# Altium footprint library SamacSys.PcbLib: 47 footprints (part 1 of 3)
Each footprint in its own frame and in the unit in brackets; x right, y up, seen from the top. Pads: shape width x height; smd on the part's side, far side on the other; paste and mask are expansions set on the pad; w line width, h text height; cw(c..) or ccw(c..) is an arc to the next point about the centre after c.
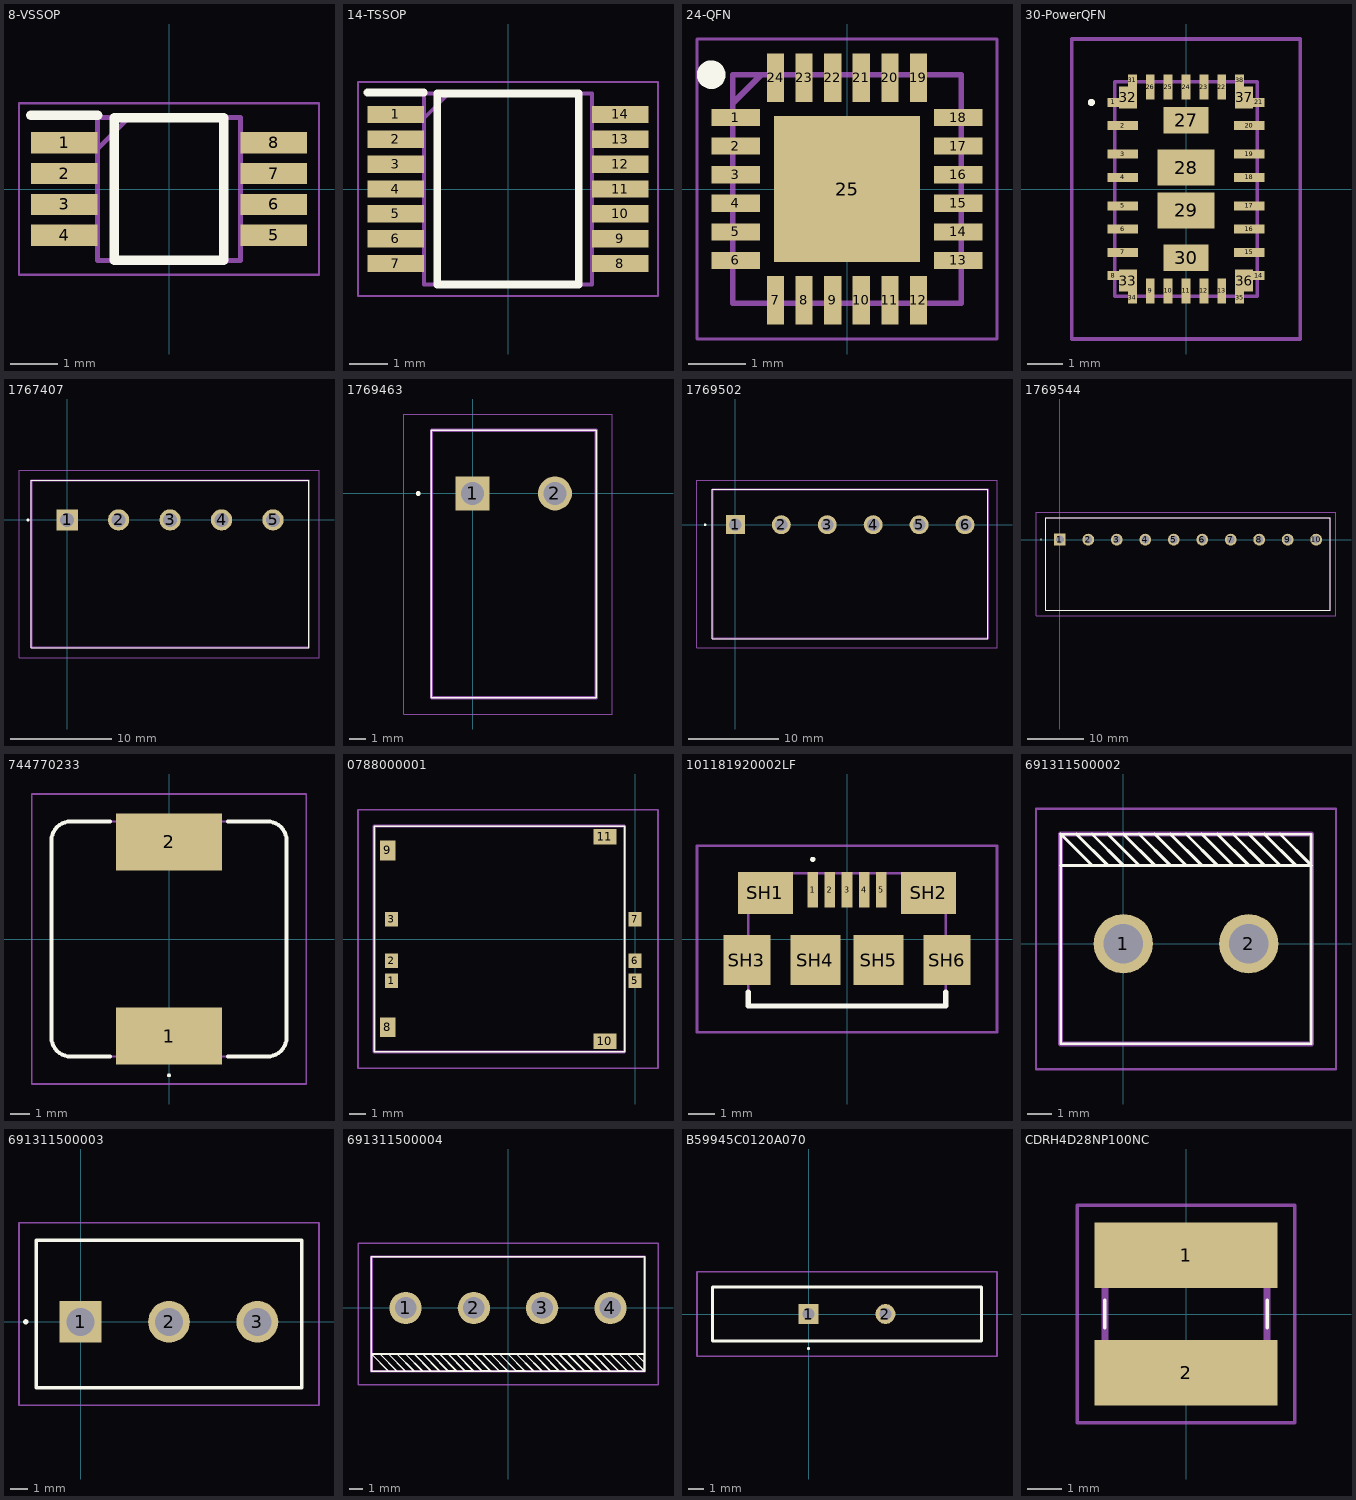
[diagram p0: the footprints below, top view; thin cyan lines are the x and y axes]

## 8-VSSOP [mm]
pads (8):
  rect 1.4x0.45 smd: 1(-2.2,0.975) 2(-2.2,0.325) 3(-2.2,-0.325) 4(-2.2,-0.975) 5(2.2,-0.975) 6(2.2,-0.325) 7(2.2,0.325) 8(2.2,0.975)
Top Overlay:
  lines w0.2: -2.9,1.55 -1.5,1.55 ; -1.15,-1.5 1.15,-1.5 1.15,1.5 -1.15,1.5 -1.15,-1.5
Mechanical 13:
  lines w0.1: -1.5,0.85 -0.85,1.5 ; -1.5,-1.5 1.5,-1.5 1.5,1.5 -1.5,1.5 -1.5,-1.5
Mechanical 15:
  lines w0.05: -3.15,-1.8 3.15,-1.8 3.15,1.8 -3.15,1.8 -3.15,-1.8
3D body "TCA9536DGKR.stp": height 1.1, standoff 0, extent -2.451,-1.499 2.451,1.499

## 14-TSSOP [mm]
pads (14):
  rect 1.475x0.45 smd: 1(-2.938,1.95) 2(-2.938,1.3) 3(-2.938,0.65) 4(-2.938,0) 5(-2.938,-0.65) 6(-2.938,-1.3) 7(-2.938,-1.95) 8(2.938,-1.95) 9(2.938,-1.3) 10(2.938,-0.65) 11(2.938,0) 12(2.938,0.65) 13(2.938,1.3) 14(2.938,1.95)
Top Overlay:
  lines w0.2: -3.675,2.525 -2.2,2.525 ; -1.85,-2.5 -1.85,2.5 1.85,2.5 1.85,-2.5 -1.85,-2.5
Mechanical 13:
  lines w0.1: -2.2,1.85 -1.55,2.5 ; -2.2,-2.5 -2.2,2.5 2.2,2.5 2.2,-2.5 -2.2,-2.5
Mechanical 15:
  lines w0.05: -3.925,-2.8 -3.925,2.8 3.925,2.8 3.925,-2.8 -3.925,-2.8
3D body "TXS0104EPWR.stp": height 1.13, standoff 0, extent -3.2,-2.5 3.2,2.5

## 24-QFN [mm]
pads (25):
  rect 0.85x0.3 smd: 1(-1.95,1.25) 2(-1.95,0.75) 3(-1.95,0.25) 4(-1.95,-0.25) 5(-1.95,-0.75) 6(-1.95,-1.25) 13(1.95,-1.25) 14(1.95,-0.75) 15(1.95,-0.25) 16(1.95,0.25) 17(1.95,0.75) 18(1.95,1.25)
  rect 0.3x0.85 smd: 7(-1.25,-1.95) 8(-0.75,-1.95) 9(-0.25,-1.95) 10(0.25,-1.95) 11(0.75,-1.95) 12(1.25,-1.95) 19(1.25,1.95) 20(0.75,1.95) 21(0.25,1.95) 22(-0.25,1.95) 23(-0.75,1.95) 24(-1.25,1.95)
  rect 2.55x2.55 smd: 25(0,0)
Top Overlay:
  circle w0.25: c-2.375,2 r0.125
Mechanical 13:
  lines w0.1: -2,1.5 -1.5,2 ; -2,-2 2,-2 2,2 -2,2 -2,-2
Mechanical 15:
  lines w0.05: -2.625,-2.625 2.625,-2.625 2.625,2.625 -2.625,2.625 -2.625,-2.625
3D body "NAU8814YG_TR.stp": height 0.9, standoff 0, extent -2.05,-2.05 2.05,2.05

## 30-PowerQFN [mm]
pads (38):
  rect 0.325x0.25 smd: 1(-2.038,2.425) 8(-2.038,-2.425) 14(2.038,-2.425) 21(2.038,2.425)
  rect 0.85x0.25 smd: 2(-1.775,1.775) 3(-1.775,0.975) 4(-1.775,0.325) 5(-1.775,-0.475) 6(-1.775,-1.125) 7(-1.775,-1.775) 15(1.775,-1.775) 16(1.775,-1.125) 17(1.775,-0.475) 18(1.775,0.325) 19(1.775,0.975) 20(1.775,1.775)
  rect 0.25x0.7 smd: 9(-1,-2.85) 10(-0.5,-2.85) 11(0,-2.85) 12(0.5,-2.85) 13(1,-2.85) 22(1,2.85) 23(0.5,2.85) 24(0,2.85) 25(-0.5,2.85) 26(-1,2.85)
  rect 1.25x0.74 smd: 27(0,1.925) 30(0,-1.925)
  rect 1.6x1 smd: 28(0,0.6) 29(0,-0.6)
  rect 0.25x0.325 smd: 31(-1.5,3.038) 34(-1.5,-3.038) 35(1.5,-3.038) 38(1.5,3.038)
  rect 0.5x0.625 smd: 32(-1.625,2.563) 33(-1.625,-2.563) 36(1.625,-2.563) 37(1.625,2.563)
Top Overlay:
  lines w0.1: -2.7,2.425 cw(c-2.65,2.425) -2.6,2.425 cw(c-2.65,2.425) -2.7,2.425
Mechanical 13:
  lines w0.1: -2,-3 2,-3 2,3 -2,3 -2,-3
Mechanical 15:
  lines w0.1: -3.2,-4.2 3.2,-4.2 3.2,4.2 -3.2,4.2 -3.2,-4.2
3D body "TPSM63603V5RDHR.stp": height 2, standoff 0, extent -2,-3 2,3

## 1767407 [mm]
pads (5):
  rect 2.1x2.1 hole 1.4: 1(0,0)
  round 2.1 hole 1.4: 2(5.08,0) 3(10.16,0) 4(15.24,0) 5(20.32,0)
Top Overlay:
  circle w0.2: c-3.85,0 r0.05
  lines w0.1: -3.54,-12.6 -3.54,3.9 23.86,3.9 23.86,-12.6 -3.54,-12.6
Mechanical 13:
  lines w0.2: -3.54,-12.6 -3.54,3.9 23.86,3.9 23.86,-12.6 -3.54,-12.6
Mechanical 15:
  lines w0.05: -4.75,-13.6 -4.75,4.9 24.86,4.9 24.86,-13.6 -4.75,-13.6
3D body "1767407.stp": height 0, standoff -27.4, extent 2.088,-13.037 20.387,3.731

## 1769463 [mm]
pads (2):
  rect 2.1x2.1 hole 1.4: 1(0,0)
  round 2.1 hole 1.4: 2(5.08,0)
Top Overlay:
  circle w0.2: c-3.35,0 r0.05
  lines w0.1: -2.54,-12.6 7.62,-12.6 7.62,3.9 -2.54,3.9 -2.54,-12.6
Mechanical 13:
  lines w0.2: -2.54,-12.6 7.62,-12.6 7.62,3.9 -2.54,3.9 -2.54,-12.6
Mechanical 15:
  lines w0.05: -4.25,-13.6 8.62,-13.6 8.62,4.9 -4.25,4.9 -4.25,-13.6
3D body "1769463.stp": height 0, standoff -10.16, extent -14.018,-3.5 2.75,14.799

## 1769502 [mm]
pads (6):
  rect 2.1x2.1 hole 1.4: 1(0,0)
  round 2.1 hole 1.4: 2(5.08,0) 3(10.16,0) 4(15.24,0) 5(20.32,0) 6(25.4,0)
Top Overlay:
  circle w0.2: c-3.35,0 r0.05
  lines w0.1: -2.54,-12.6 27.94,-12.6 27.94,3.9 -2.54,3.9 -2.54,-12.6
Mechanical 13:
  lines w0.2: -2.54,-12.6 27.94,-12.6 27.94,3.9 -2.54,3.9 -2.54,-12.6
Mechanical 15:
  lines w0.05: -4.25,-13.6 28.94,-13.6 28.94,4.9 -4.25,4.9 -4.25,-13.6
3D body "1769502.stp": height 0, standoff -30.48, extent -14.018,-3.5 2.75,14.799

## 1769544 [mm]
pads (10):
  rect 2.1x2.1 hole 1.4: 1(0,0)
  round 2.1 hole 1.4: 2(5.08,0) 3(10.16,0) 4(15.24,0) 5(20.32,0) 6(25.4,0) 7(30.48,0) 8(35.56,0) 9(40.64,0) 10(45.72,0)
Top Overlay:
  circle w0.2: c-3.35,0 r0.05
  lines w0.1: -2.54,-12.6 -2.54,3.9 48.26,3.9 48.26,-12.6 -2.54,-12.6
Mechanical 13:
  lines w0.2: -2.54,-12.6 -2.54,3.9 48.26,3.9 48.26,-12.6 -2.54,-12.6
Mechanical 15:
  lines w0.05: -4.25,-13.6 -4.25,4.9 49.26,4.9 49.26,-13.6 -4.25,-13.6
3D body "1769544.stp": height 0, standoff -50.8, extent -14.018,-3.5 2.75,14.799

## 744770233 [mm]
pads (2):
  rect 5.4x2.9 smd: 1(0,-4.95) 2(0,4.95)
Top Overlay:
  lines w0.1: 0,-7 cw(c0,-6.95) 0,-6.9 cw(c0,-6.95) 0,-7
  lines w0.2: -3,-6 -5,-6 cw(c-5,-5) -6,-5 -6,5 cw(c-5,5) -5,6 -3,6 ; 3,-6 5,-6 ccw(c5,-5) 6,-5 6,5 ccw(c5,5) 5,6 3,6
Mechanical 13:
  lines w0.1: -6,-5 ccw(c-5,-5) -5,-6 5,-6 ccw(c5,-5) 6,-5 6,0 6,5 ccw(c5,5) 5,6 -5,6 ccw(c-5,5) -6,5 -6,-5
Mechanical 15:
  lines w0.1: -7,-7.4 -7,7.4 7,7.4 7,-7.4 -7,-7.4
3D body "744770233.stp": height 8.1, standoff 0, extent -6,-6.11 6,6.11

## 0788000001 [mm]
pads (10):
  rect 0.8x0.9 smd: 1(-14.94,-2.57) 2(-14.94,-1.33) 3(-14.94,1.21) 5(0,-2.57) 6(0,-1.33) 7(0,1.21)
  rect 0.95x1.2 smd: 8(-15.17,-5.42) 9(-15.17,5.43)
  rect 1.4x0.95 smd: 10(-1.86,-6.26) 11(-1.86,6.26)
Top Overlay:
  lines w0.1: -16,-6.925 -16,6.925 -0.65,6.925 -0.65,-6.925 -16,-6.925
Mechanical 13:
  lines w0.2: -16,-6.925 -16,6.925 -0.65,6.925 -0.65,-6.925 -16,-6.925
Mechanical 15:
  lines w0.1: -17,-7.925 -17,7.925 1.4,7.925 1.4,-7.925 -17,-7.925
3D body "0788000001.stp": height 1.7, standoff 0, extent -16,-6.925 0.32,6.925

## 101181920002LF [mm]
pads (11):
  rect 0.4x1.35 smd: 1(-1.3,1.875) 2(-0.65,1.875) 3(0,1.875) 4(0.65,1.875) 5(1.3,1.875)
  rect 2.1x1.6 smd: SH1(-3.1,1.75) SH2(3.1,1.75)
  rect 1.8x1.9 smd: SH3(-3.8,-0.8) SH6(3.8,-0.8)
  rect 1.9x1.9 smd: SH4(-1.2,-0.8) SH5(1.2,-0.8)
Top Overlay:
  lines w0.1: -1.3,2.975 cw(c-1.3,3.025) -1.3,3.075 cw(c-1.3,3.025) -1.3,2.975
  lines w0.2: -3.75,-2.025 -3.75,-2.55 3.75,-2.55 3.75,-2.025
Mechanical 13:
  lines w0.1: -3.75,-2.55 -3.75,2.5 3.75,2.5 3.75,-2.55 -3.75,-2.55
Mechanical 15:
  lines w0.1: -5.7,-3.55 -5.7,3.55 5.7,3.55 5.7,-3.55 -5.7,-3.55
3D body "10118192-0002LF.stp": height 2.77, standoff 0, extent -3.957,-2.55 3.955,2.55

## 691311500002 [mm]
pads (2):
  round 2.4 hole 1.6: 1(0,0) 2(5.08,0)
Top Overlay:
  lines w0.1: -2.54,-4.064 7.62,-4.064 7.62,4.445 -2.54,4.445 -2.54,-4.064
  lines w0.127: -2.54,3.175 7.62,3.175 6.35,4.445 ; -2.54,4.445 -1.27,3.175 -0.635,3.175 -1.905,4.445 ; -1.27,4.445 0,3.175 ; -0.635,4.445 0.635,3.175 ; 0,4.445 1.27,3.175 ; 0.635,4.445 1.905,3.175 ; 1.27,4.445 2.54,3.175 ; 1.905,4.445 3.175,3.175 ; 2.54,4.445 3.81,3.175 ; 3.175,4.445 4.445,3.175 ; 3.81,4.445 5.08,3.175 ; 4.445,4.445 5.715,3.175 ; 5.08,4.445 6.35,3.175 ; 5.715,4.445 6.985,3.175
Mechanical 13:
  lines w0.2: -2.54,-4.064 7.62,-4.064 7.62,4.445 -2.54,4.445 -2.54,-4.064
Mechanical 15:
  lines w0.1: -3.54,-5.08 8.62,-5.08 8.62,5.461 -3.54,5.461 -3.54,-5.08
3D body: height 4.05, standoff -4.45, extent 0.762,3.175 0.762,3.175
3D body "691311500002.stp": height 12.1, standoff -3.9, extent -2.54,-4.05 7.62,4.45

## 691311500003 [mm]
pads (3):
  rect 2.4x2.4 hole 1.6: 1(0,0)
  round 2.4 hole 1.6: 2(5.08,0) 3(10.16,0)
Top Overlay:
  lines w0.2: -3.2,0 ccw(c-3.15,0) -3.1,0 ; -3.2,0 cw(c-3.15,0) -3.1,0 ; -3.2,0 -3.1,0 ; -2.54,-3.8 12.7,-3.8 12.7,4.7 -2.54,4.7 -2.54,-3.8
Mechanical 13:
  lines w0.1: -2.54,-3.8 12.7,-3.8 12.7,4.7 -2.54,4.7 -2.54,-3.8
Mechanical 15:
  lines w0.1: -3.54,-4.8 13.7,-4.8 13.7,5.7 -3.54,5.7 -3.54,-4.8
3D body "691311500003.stp": height 12.34, standoff -3.66, extent -2.54,-4.66 12.7,3.84

## 691311500004 [mm]
pads (4):
  round 2.4 hole 1.6: 1(-7.62,0) 2(-2.54,0) 3(2.54,0) 4(7.62,0)
Top Overlay:
  lines w0.1: -10.16,-4.7 -10.16,3.8 10.16,3.8 10.16,-4.7 -10.16,-4.7
  lines w0.127: -6.096,-3.429 -6.985,-3.429 -5.715,-4.699 ; 10.16,-4.064 10.16,-4.063 9.526,-3.429 8.89,-3.429 8.889,-3.429 10.16,-4.7 ; -10.16,-3.429 -10.16,-4.7 10.16,-4.7 ; -10.16,-3.429 -8.89,-4.699 -8.255,-4.699 -9.525,-3.429 -8.891,-3.429 -7.621,-4.699 -6.985,-4.699 -8.255,-3.429 -7.621,-3.429 -6.35,-4.7 -5.715,-4.7 -5.715,-4.699 ; -10.16,-3.429 10.16,-3.429 10.16,-4.7 ; -5.715,-4.699 -5.081,-4.699 -5.081,-4.698 -6.35,-3.429 -5.715,-3.429 -5.714,-3.429 -4.445,-4.698 -3.812,-4.698 -5.08,-3.43 -4.446,-3.43 -4.443,-3.43 -3.175,-4.698 -2.54,-4.698 -2.543,-4.698 -3.81,-3.431 -3.177,-3.431 -3.172,-3.431 -1.905,-4.698 -1.272,-4.698 -1.272,-4.697 -2.54,-3.429 -1.905,-3.429 -1.903,-3.429 -0.635,-4.697 -0.003,-4.697 0,-4.7 -0.001,-4.7 -1.27,-3.431 -0.637,-3.431 0.632,-4.7 0.635,-4.697 1.268,-4.697 0,-3.429 0.635,-3.429 1.903,-4.697 1.906,-4.7 2.54,-4.7 2.539,-4.7 1.268,-3.429 1.903,-3.429 1.907,-3.429 3.175,-4.697 3.807,-4.697 2.54,-3.43 3.174,-3.43 3.178,-3.43 4.445,-4.697 5.08,-4.697 5.075,-4.697 3.81,-3.432 4.442,-3.432 4.45,-3.432 5.715,-4.697 6.35,-4.697 6.343,-4.697 5.08,-3.434 5.71,-3.434 6.976,-4.7 7.619,-4.7 6.35,-3.431 6.352,-3.429 6.985,-3.429 8.253,-4.697 8.888,-4.697 7.62,-3.429 8.255,-3.429 9.523,-4.697 9.526,-4.7 10.16,-4.7
Mechanical 13:
  lines w0.2: -10.16,-4.7 -10.16,3.8 10.16,3.8 10.16,-4.7 -10.16,-4.7
Mechanical 15:
  lines w0.1: -11.16,-5.7 -11.16,4.8 11.16,4.8 11.16,-5.7 -11.16,-5.7
3D body "691311500004.stp": height 12.1, standoff -3.9, extent -10.033,-4.69 10.287,3.81

## B59945C0120A070 [mm]
pads (2):
  rect 1.3x1.3 hole 0.8: 1(0,0)
  round 1.3 hole 0.8: 2(5,0)
Top Overlay:
  lines w0.1: 0,-2.3 cw(c0,-2.25) 0,-2.2 cw(c0,-2.25) 0,-2.3
  lines w0.2: -6.25,-1.75 -6.25,1.75 11.25,1.75 11.25,-1.75 -6.25,-1.75
Mechanical 13:
  lines w0.1: -6.25,-1.75 -6.25,1.75 11.25,1.75 11.25,-1.75 -6.25,-1.75
Mechanical 15:
  lines w0.1: -7.25,-2.75 -7.25,2.75 12.25,2.75 12.25,-2.75 -7.25,-2.75
3D body "B59945C0120A070.stp": height 21.63, standoff -24.37, extent -6.25,-1.75 11.25,1.75

## CDRH4D28NP100NC [mm]
pads (2):
  rect 5.3x1.9 smd: 1(0,1.7) 2(0,-1.7)
Top Overlay:
  lines w0.1: -2.35,-0.4 -2.35,0.4 ; 2.35,-0.4 2.35,0.4
Mechanical 13:
  lines w0.2: -2.35,-2.35 2.35,-2.35 2.35,2.35 -2.35,2.35 -2.35,-2.35
Mechanical 15:
  lines w0.1: -3.15,-3.15 3.15,-3.15 3.15,3.15 -3.15,3.15 -3.15,-3.15
3D body "CDRH4D28NP-100NC.stp": height 2.7, standoff 0, extent -2.534,-2.534 2.534,2.534